# Altium footprint library iip.PcbLib: 25 footprints (part 1 of 2)
Each footprint in its own frame and in the unit in brackets; x right, y up, seen from the top. Pads: shape width x height; smd on the part's side, far side on the other; paste and mask are expansions set on the pad; w line width, h text height; cw(c..) or ccw(c..) is an arc to the next point about the centre after c.
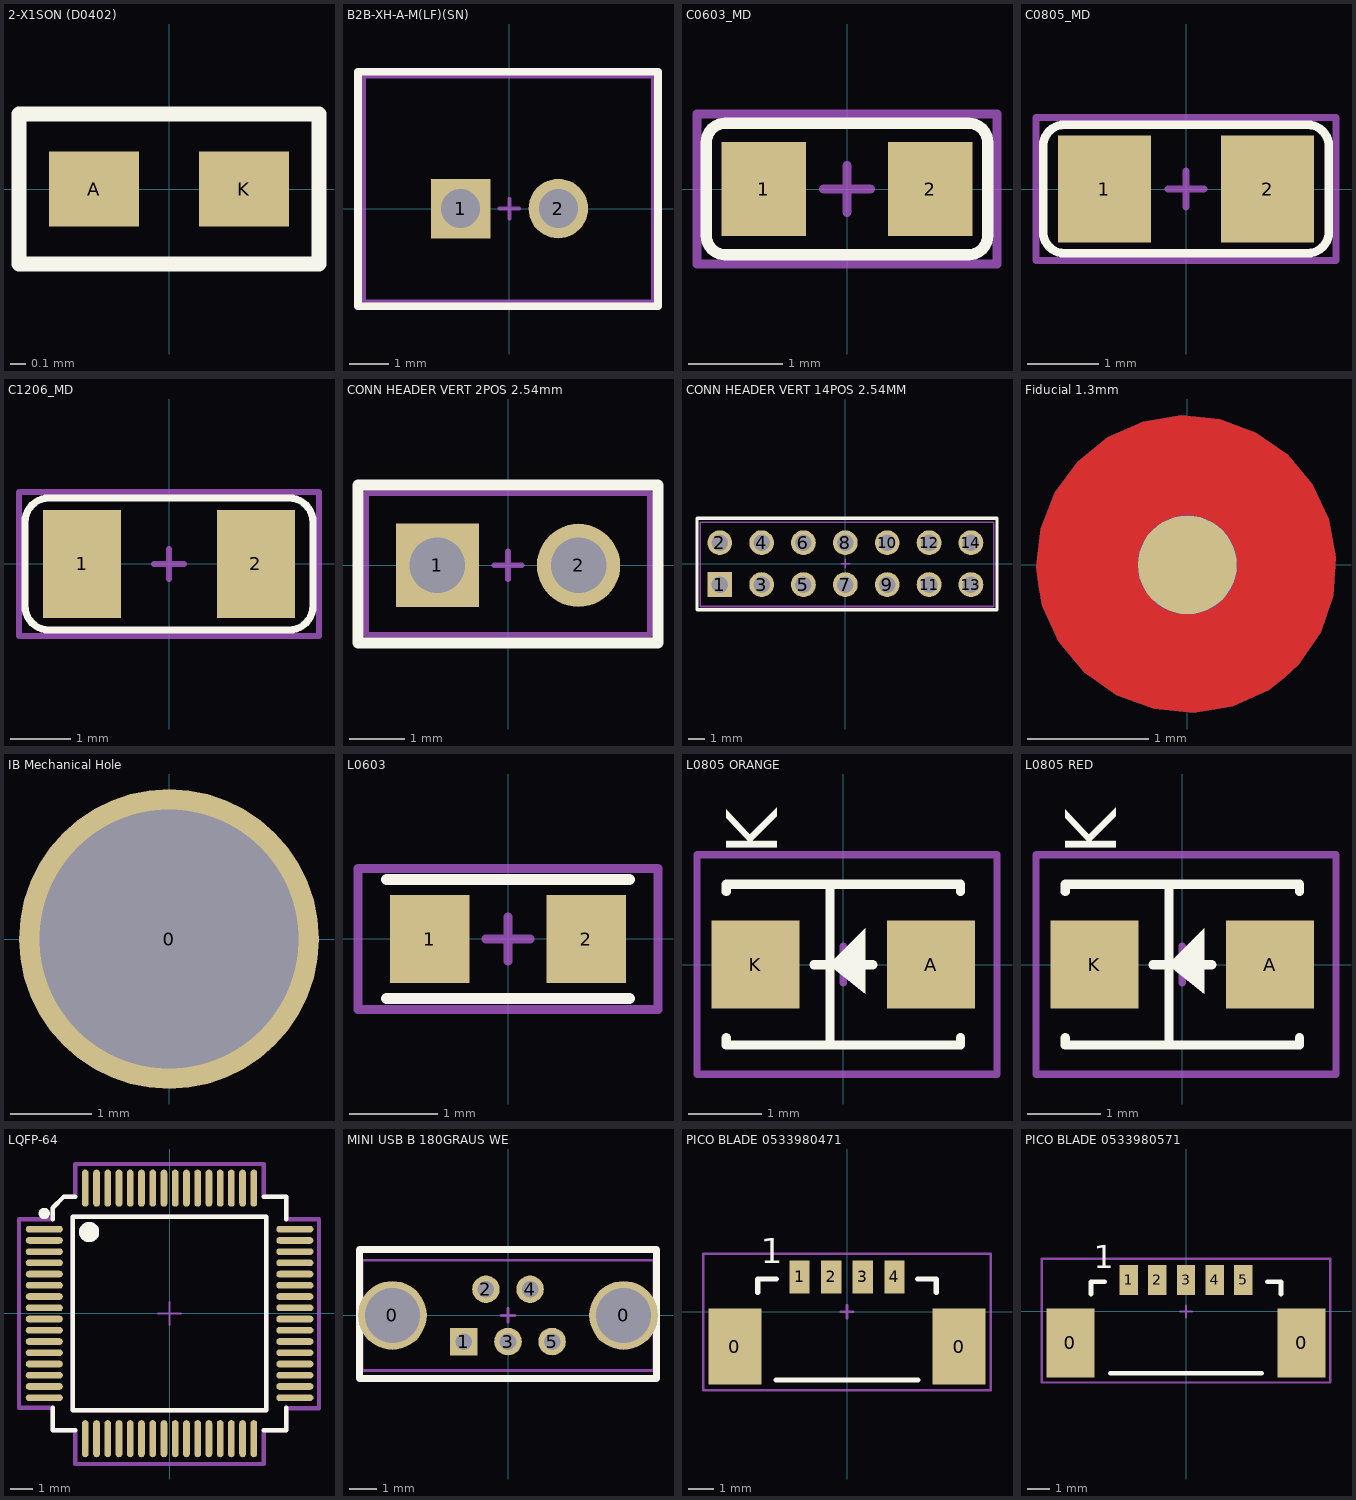
[diagram p0: the footprints below, top view; thin cyan lines are the x and y axes]

## 2-X1SON (D0402) [mm]
pads (2):
  rect 0.6x0.5 smd: A(-0.5,0) K(0.5,0)
Top Overlay:
  lines w0.1: -1,-0.5 -1,-0.2 -1,0.5 1,0.5 1,-0.5 -1,-0.5

## B2B-XH-A-M(LF)(SN) [mm]
pads (2):
  rect 1.524x1.524 hole 1: 1(-1.25,0)
  round 1.524 hole 1: 2(1.25,0)
Top Overlay:
  lines w0.2: -3.875,-2.5 -3.875,0.5 -3.875,3.5 3.8,3.5 3.8,-2.5 -3.875,-2.5
Mechanical 15:
  lines w0.1: -0.25,0 0.25,0 ; 0,-0.25 0,0.25 ; -3.725,-2.375 -3.725,2.875 -3.725,3.375 3.675,3.375 3.675,-2.375 -3.725,-2.375
  text "'.Designator'" at -2.5,1.25 h1.2
3D body "B2B-XH-A.STEP": height 7.01, standoff -3.39, extent -3.725,-2.375 3.675,3.375

## C0603_MD [mm] "Chip Capacitor, Body 1.6x0.8mm, IPC Medium Density"
height 0.85
pads (2):
  rect 0.9x1 smd: 1(-0.889,0) 2(0.889,0)
Top Overlay:
  lines w0.12: -1.5,-0.5 ccw(c-1.3,-0.5) -1.3,-0.7 1.3,-0.7 ccw(c1.3,-0.5) 1.5,-0.5 1.5,0.5 ccw(c1.3,0.5) 1.3,0.7 -1.3,0.7 ccw(c-1.3,0.5) -1.5,0.5 -1.5,-0.5
Mechanical 15:
  lines w0.1: -0.25,0 0.25,0 ; 0,-0.25 0,0.25 ; -1.6,-0.8 1.6,-0.8 1.6,0.8 -1.6,0.8 -1.6,-0.8
  text "'.Designator'" at -1.5,-0.5 h0.8
3D body "C0603.step": height 0.79, standoff 0, extent -1,-0.406 1,0.381

## C0805_MD [mm] "Chip Capacitor, Body 2.0x1.3mm, IPC Medium Density"
height 1.1
pads (2):
  rect 1.3x1.5 smd: 1(-1.143,0) 2(1.143,0)
Top Overlay:
  lines w0.12: -2,-0.6 ccw(c-1.7,-0.6) -1.7,-0.9 1.7,-0.9 ccw(c1.7,-0.6) 2,-0.6 2,0.6 ccw(c1.7,0.6) 1.7,0.9 -1.7,0.9 ccw(c-1.7,0.6) -2,0.6 -2,-0.6
Mechanical 15:
  lines w0.1: -0.25,0 0.25,0 ; 0,-0.25 0,0.25 ; -2.1,-1 2.1,-1 2.1,1 -2.1,1 -2.1,-1
  text "'.Designator'" at -1.8,-0.7 h0.8
3D body "C0805.step": height 0.79, standoff 0, extent -1.254,-0.61 1.254,0.635

## C1206_MD [mm] "Chip Capacitor, Body 3.2x1.6mm, IPC Medium Density"
height 1.35
pads (2):
  rect 1.3x1.8 smd: 1(-1.45,0) 2(1.45,0)
Top Overlay:
  lines w0.12: -2.4,-0.7 ccw(c-2,-0.7) -2,-1.1 2,-1.1 ccw(c2,-0.7) 2.4,-0.7 2.4,0.7 ccw(c2,0.7) 2,1.1 -2,1.1 ccw(c-2,0.7) -2.4,0.7 -2.4,-0.7
Mechanical 15:
  lines w0.1: -0.25,0 0.25,0 ; 0,-0.25 0,0.25 ; -2.5,-1.2 -2.5,1.2 2.5,1.2 2.5,-1.2 -2.5,-1.2
  text "'.Designator'" at -2,-1 h0.8
3D body "C1206.step": height 1.53, standoff 0, extent -2,-0.813 2,0.788

## CONN HEADER VERT 2POS 2.54mm [mm]
pads (2):
  rect 1.5x1.5 hole 1: 1(-1.27,0)
  round 1.5 hole 1: 2(1.27,0)
Top Overlay:
  lines w0.2: -2.7,-1.4 2.7,-1.4 2.7,1.45 -2.7,1.45 -2.7,-1.4
Mechanical 15:
  lines w0.1: -0.25,0 0.25,0 ; 0,-0.25 0,0.25 ; -2.55,-1.25 -2.55,1.3 2.55,1.3 2.55,-1.25 -2.55,-1.25
  text "'.Designator'" at -2,-1 h0.8
3D body "m20-9990245_asm.stp": height 8.65, standoff -3.03, extent -2.54,-1.25 2.54,1.29

## CONN HEADER VERT 14POS 2.54MM [mm]
pads (14):
  rect 1.5x1.5 hole 1: 1(-7.62,-1.27)
  round 1.5 hole 1: 2(-7.62,1.27) 3(-5.08,-1.27) 4(-5.08,1.27) 5(-2.54,-1.27) 6(-2.54,1.27) 7(0,-1.27) 8(0,1.27) 9(2.54,-1.27) 10(2.54,1.27) 11(5.08,-1.27) 12(5.08,1.27) 13(7.62,-1.27) 14(7.62,1.27)
Top Overlay:
  lines w0.2: -9,-2.8 -9,2.75 0.21,2.75 9.2,2.75 9.2,-2.8 -9,-2.8
Mechanical 15:
  lines w0.1: -0.25,0 0.25,0 ; 0,-0.25 0,0.25 ; -8.8,-2.6 9,-2.6 9,2.5 -8.8,2.5 -8.8,0.25 -8.8,-2.6
  text "'.Designator'" at -1.75,0.75 h1.2
3D body "m20-9980745_asm.stp": height 8.65, standoff -3.03, extent -8.88,-2.555 8.9,2.525

## Fiducial 1.3mm [mil]
pads (3):
  round 32 smd far side: ""(0,0)
  round 32 on Bottom Solder: ""(0,0)
  round 32 smd: ""(0,0)
Top Layer:
  pour cut-out: 0.19,48.23
  pour cut-out: -48.23,-6.89 -49.1,-0.68 -47.61,11.76 -43,23.41 -35.57,33.5 -25.81,41.35 -14.36,46.46 -1.99,48.47 10.48,47.27 22.23,42.91 32.48,35.71 40.55,26.12 45.91,14.79 48.2,2.47 47.27,-10.02 43.18,-21.87 36.2,-32.28 31.5,-36.42 26.5,-40.49 14.76,-45.8 2.06,-47.91 -10.77,-46.69 -22.85,-42.21 -33.38,-34.79 -41.64,-24.9 -47.09,-13.23
Bottom Layer:
  pour cut-out: -48.23,-6.89 -49.1,-0.69 -47.61,11.76 -43,23.41 -35.57,33.5 -25.81,41.35 -14.36,46.46 -1.99,48.47 10.48,47.27 22.23,42.91 32.48,35.71 40.55,26.12 45.91,14.79 48.2,2.47 47.27,-10.02 43.18,-21.87 36.2,-32.28 31.5,-36.42 26.5,-40.49 14.76,-45.8 2.06,-47.91 -10.77,-46.69 -22.85,-42.21 -33.38,-34.79 -41.64,-24.9 -47.09,-13.23
Top Solder:
  circle w10: c0,0 r43.01
  region: -31,-31 0,-43 32,-31 43,0 32,29 0,43 -31,31 -43,0
Bottom Solder:
  circle w10: c0,0 r43.01
  region: -31,-31 0,-43 32,-31 43,0 32,29 0,43 -31,31 -43,0

## IB Mechanical Hole [mm]
pads (1):
  round 3.7 hole 3.2: 0(0,0)

## L0603 [mm]
pads (2):
  rect 0.9x1 smd: 1(-0.889,0) 2(0.889,0)
Top Overlay:
  lines w0.127: -1.375,-0.675 1.375,-0.675 ; -1.375,0.675 1.375,0.675
Mechanical 15:
  lines w0.1: -0.25,0 0.25,0 ; 0,-0.25 0,0.25 ; -1.7,-0.8 1.7,-0.8 1.7,0.8 -1.7,0.8 -1.7,-0.8
  text "'.Designator'" at -1.25,-0.5 h0.8
3D body "User Library-Chip Inductor (1).step": height 0.95, standoff 0, extent -0.8,-0.4 0.8,0.4

## L0805 ORANGE [mm] "LED RED CLEAR 0805 SMD"
pads (2):
  rect 1.2x1.2 smd paste+0: A(1.2,0) K(-1.2,0)
Top Overlay:
  region: -0.2,0 0.3,0.5 0.3,0 0.3,-0.4
  lines w0.127: -1.6,-1 -1.6,-1.1 1.6,-1.1 1.6,-1 ; -1.6,1 -1.6,1.1 1.6,1.1 1.6,1 ; -0.4,0 0.4,0 ; -0.181,-1.1 -0.181,1.1
  text "K" at -0.9,1.5 h0.7
Mechanical 15:
  lines w0.1: -0.25,0 0.25,0 ; 0,-0.25 0,0.25 ; -2,-1.5 -2,1.5 2.1,1.5 2.1,-1.5 -2,-1.5
  text "'.Designator'" at -1.6,-1.2 h0.8
3D body "User Library-led_0805_orange.step": height 1.11, standoff 0.01, extent -1.01,-0.625 1.01,0.625

## L0805 RED [mm] "LED RED CLEAR 0805 SMD"
pads (2):
  rect 1.2x1.2 smd paste+0: A(1.2,0) K(-1.2,0)
Top Overlay:
  region: -0.2,0 0.3,0.5 0.3,0 0.3,-0.4
  lines w0.127: -1.6,-1 -1.6,-1.1 1.6,-1.1 1.6,-1 ; -1.6,1 -1.6,1.1 1.6,1.1 1.6,1 ; -0.4,0 0.4,0 ; -0.181,-1.1 -0.181,1.1
  text "K" at -0.9,1.5 h0.7
Mechanical 15:
  lines w0.1: -0.25,0 0.25,0 ; 0,-0.25 0,0.25 ; -2,-1.5 -2,1.5 2.1,1.5 2.1,-1.5 -2,-1.5
  text "'.Designator'" at -1.6,-1.2 h0.8
3D body "User Library-led_0805.step": height 1.1, standoff 0, extent -1.01,-0.625 1.01,0.625

## LQFP-64 [mm] "64-Pin LQFP 0.5 mm Pitch"
height 1.6
pads (64):
  oval 1.65x0.3 smd: 1(-5.575,3.75) 2(-5.575,3.25) 3(-5.575,2.75) 4(-5.575,2.25) 5(-5.575,1.75) 6(-5.575,1.25) 7(-5.575,0.75) 8(-5.575,0.25) 9(-5.575,-0.25) 10(-5.575,-0.75) 11(-5.575,-1.25) 12(-5.575,-1.75) 13(-5.575,-2.25) 14(-5.575,-2.75) 15(-5.575,-3.25) 16(-5.575,-3.75) 33(5.575,-3.75) 34(5.575,-3.25) 35(5.575,-2.75) 36(5.575,-2.25) 37(5.575,-1.75) 38(5.575,-1.25) 39(5.575,-0.75) 40(5.575,-0.25) 41(5.575,0.25) 42(5.575,0.75) 43(5.575,1.25) 44(5.575,1.75) 45(5.575,2.25) 46(5.575,2.75) 47(5.575,3.25) 48(5.575,3.75)
  oval 0.3x1.65 smd: 17(-3.75,-5.575) 18(-3.25,-5.575) 19(-2.75,-5.575) 20(-2.25,-5.575) 21(-1.75,-5.575) 22(-1.25,-5.575) 23(-0.75,-5.575) 24(-0.25,-5.575) 25(0.25,-5.575) 26(0.75,-5.575) 27(1.25,-5.575) 28(1.75,-5.575) 29(2.25,-5.575) 30(2.75,-5.575) 31(3.25,-5.575) 32(3.75,-5.575) 49(3.75,5.575) 50(3.25,5.575) 51(2.75,5.575) 52(2.25,5.575) 53(1.75,5.575) 54(1.25,5.575) 55(0.75,5.575) 56(0.25,5.575) 57(-0.25,5.575) 58(-0.75,5.575) 59(-1.25,5.575) 60(-1.75,5.575) 61(-2.25,5.575) 62(-2.75,5.575) 63(-3.25,5.575) 64(-3.75,5.575)
Top Overlay:
  circle w0.6: c-3.58,3.62 r0.15
  circle w0.25: c-5.575,4.45 r0.125
  lines w0.2: -5.2,-4.2 -5.2,-5.2 ; -5.2,4.2 -5.2,4.7 -4.7,5.2 -4.2,5.2 ; -4.2,-5.2 -5.2,-5.2 ; 4.2,-5.2 5.201,-5.2 5.2,-5.201 5.2,-4.2 ; 4.2,5.2 5.2,5.2 5.2,5.2 5.2,4.2 ; -5.2,-5.2 -5.2,-5.2 ; -4.3,-4.3 4.3,-4.3 4.3,4.3 -4.3,4.3 -4.3,-4.3
Mechanical 15:
  circle w0.6: c-3.58,3.62 r0.15
  lines w0.1: -0.5,0 0.5,0 ; 0,-0.5 0,0.5
  lines w0.2: -5.2,-5.2 -5.2,-4.2 -6.7,-4.2 -6.7,-3.95 -6.7,4.2 -5.2,4.2 -5.2,4.7 -4.7,5.2 -4.2,5.2 -4.2,6.65 4.2,6.65 4.2,5.2 ; -5.2,-5.2 -5.2,-5.2 ; -5.2,-5.2 -4.2,-5.2 -4.2,-6.7 ; -4.2,-6.7 -3.95,-6.7 3.925,-6.7 4.2,-6.7 4.2,-5.2 4.2,-5.2 5.201,-5.2 5.2,-5.201 5.2,-4.2 5.225,-4.225 6.65,-4.225 6.65,4.2 ; -4.2,-6.7 -4.2,-6.7 ; 4.2,5.2 4.2,5.2 ; 4.2,5.2 5.2,5.2 5.2,5.2 5.2,4.2 6.65,4.2 ; 6.65,4.2 6.65,4.2 ; -4.3,-4.3 4.3,-4.3 4.3,4.3 -4.3,4.3 -4.3,-4.3
  text "'.Designator'" at -2.65,1.35 h1.2
3D body "User Library-LQFP64_Grid_0_5.STEP": height 1.6, standoff 0, extent -6,-6 6,6

## MINI USB B 180GRAUS WE [mm]
pads (7):
  round 2.5 hole 2: 0(-4.2,0) 0(4.2,0)
  rect 1x1 hole 0.6: 1(-1.6,-0.95)
  round 1 hole 0.6: 2(-0.8,0.95) 3(0,-0.95) 4(0.8,0.95) 5(1.6,-0.95)
Top Overlay:
  lines w0.254: -5.4,-2.3 5.4,-2.3 5.4,2.4 -1.4,2.4 -5.4,2.4 -5.4,-2.3
Mechanical 15:
  lines w0.1: -0.25,0 0.25,0 ; 0,-0.25 0,0.25 ; -5.3,-2 5.3,-2 5.3,2 -5.3,2 -5.3,-2
  text "'.Designator'" at -1.25,0.5 h1.2
3D body "651005136421_Download_STP_651005136421_rev1.stp": height 9.21, standoff -2.79, extent -5.098,-1.95 5.098,1.95

## PICO BLADE 0533980471 [mm]
height 4.7
pads (6):
  rect 2.1x3 smd: 0(-4.425,-1.375) 0(4.425,-1.375)
  rect 0.8x1.3 smd: 1(-1.875,1.375) 2(-0.625,1.375) 3(0.625,1.375) 4(1.875,1.375)
Top Overlay:
  lines w0.2: -3.525,0.762 -3.525,1.3 -2.794,1.3 ; -2.794,-2.7 2.794,-2.7 ; 2.794,1.3 3.525,1.3 3.525,0.762
  text "1" at -3.4,1.925 h1
Mechanical 15:
  lines w0.1: -0.25,0 0.25,0 ; 0,-0.25 0,0.25 ; -5.675,-3.1 5.675,-3.1 5.675,2.3 -5.675,2.3 -5.675,-3.1
  text "'.Designator'" at -2.5,0.75 h1.2
3D body "User Library-molex 53398 white (2).step": height 4.7, standoff 0, extent -5.075,-2.5 5.075,1.7
3D body "510210400_4posHousingPicoblade.stp": height 5.88, standoff 1.92, extent -3.375,-2.351 3.375,0.851

## PICO BLADE 0533980571 [mm]
height 4.7
pads (7):
  rect 2.1x3 smd: 0(-5.05,-1.375) 0(5.05,-1.375)
  rect 0.8x1.3 smd: 1(-2.5,1.375) 2(-1.25,1.375) 3(0,1.375) 4(1.25,1.375) 5(2.5,1.375)
Top Overlay:
  lines w0.2: -4.15,0.762 -4.15,1.3 -3.556,1.3 ; -3.3,-2.7 3.304,-2.7 ; 3.556,1.3 4.15,1.3 4.15,0.762
  text "1" at -4.025,1.875 h1
Mechanical 15:
  lines w0.1: -0.25,0 0.25,0 ; 0,-0.25 0,0.25 ; -6.3,-3.1 6.3,-3.1 6.3,2.3 -6.3,2.3 -6.3,-3.1
  text "'.Designator'" at -3,0.75 h1.2
3D body "User Library-molex 53398 white (3).step": height 4.7, standoff 0, extent -5.7,-2.5 5.7,1.7
3D body "510210500_5posHousingPicoblade.stp": height 5.87, standoff 1.92, extent -4,-2.6 4,0.6